# Altium schematic symbol library SCH-MCU-WCH-CH557Q-LQFP64.SchLib: 1 symbol
Pins are listed as number, name and electrical type; pins without a type are passive.

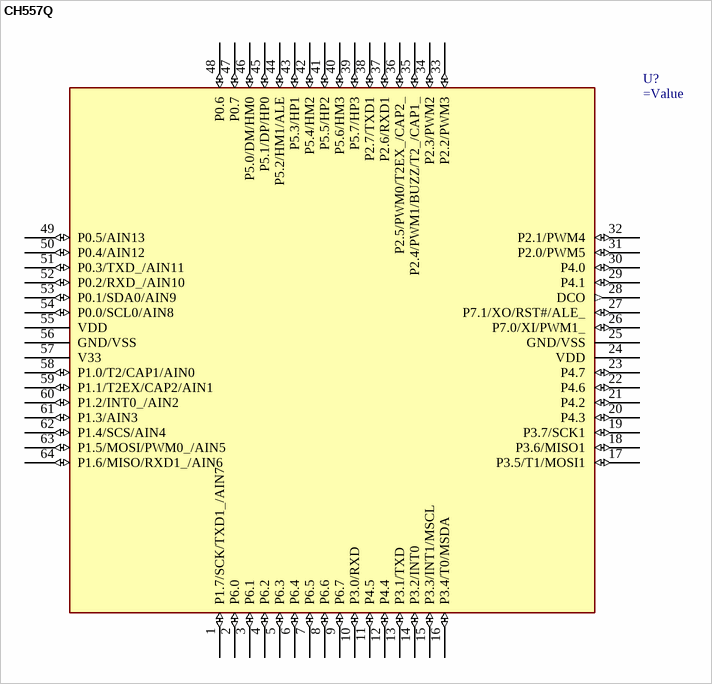
[diagram p0: symbol CH557Q]

## CH557Q
designator U?
pins: 1 P1.7/SCK/TXD1_/AIN7 (io), 2 P6.0 (io), 3 P6.1 (io), 4 P6.2 (io), 5 P6.3 (io), 6 P6.4 (io), 7 P6.5 (io), 8 P6.6 (io), 9 P6.7 (io), 10 P3.0/RXD (io), 11 P4.5 (io), 12 P4.4 (io), 13 P3.1/TXD (io), 14 P3.2/INT0 (io), 15 P3.3/INT1/MSCL (io), 16 P3.4/T0/MSDA (io), 17 P3.5/T1/MOSI1 (io), 18 P3.6/MISO1 (io), 19 P3.7/SCK1 (io), 20 P4.3 (io), 21 P4.2 (io), 22 P4.6 (io), 23 P4.7 (io), 24 VDD (power), 25 GND/VSS (power), 26 P7.0/XI/PWM1_ (io), 27 P7.1/XO/RST#/ALE_ (io), 28 DCO (out), 29 P4.1 (io), 30 P4.0 (io), 31 P2.0/PWM5 (io), 32 P2.1/PWM4 (io), 33 P2.2/PWM3 (io), 34 P2.3/PWM2 (io), 35 P2.4/PWM1/BUZZ/T2_/CAP1_ (io), 36 P2.5/PWM0/T2EX_/CAP2_ (io), 37 P2.6/RXD1 (io), 38 P2.7/TXD1 (io), 39 P5.7/HP3 (io), 40 P5.6/HM3 (io), 41 P5.5/HP2 (io), 42 P5.4/HM2 (io), 43 P5.3/HP1 (io), 44 P5.2/HM1/ALE (io), 45 P5.1/DP/HP0 (io), 46 P5.0/DM/HM0 (io), 47 P0.7 (io), 48 P0.6 (io), 49 P0.5/AIN13 (io), 50 P0.4/AIN12 (io), 51 P0.3/TXD_/AIN11 (io), 52 P0.2/RXD_/AIN10 (io), 53 P0.1/SDA0/AIN9 (io), 54 P0.0/SCL0/AIN8 (io), 55 VDD (power), 56 GND/VSS (power), 57 V33 (power), 58 P1.0/T2/CAP1/AIN0 (io), 59 P1.1/T2EX/CAP2/AIN1 (io), 60 P1.2/INT0_/AIN2 (io), 61 P1.3/AIN3 (io), 62 P1.4/SCS/AIN4 (io), 63 P1.5/MOSI/PWM0_/AIN5 (io), 64 P1.6/MISO/RXD1_/AIN6 (io)